# Altium footprint library 885012207125.PcbLib: 1 footprints
Each footprint in its own frame and in the unit in brackets; x right, y up, seen from the top. Pads: shape width x height; smd on the part's side, far side on the other; paste and mask are expansions set on the pad; w line width, h text height; cw(c..) or ccw(c..) is an arc to the next point about the centre after c.
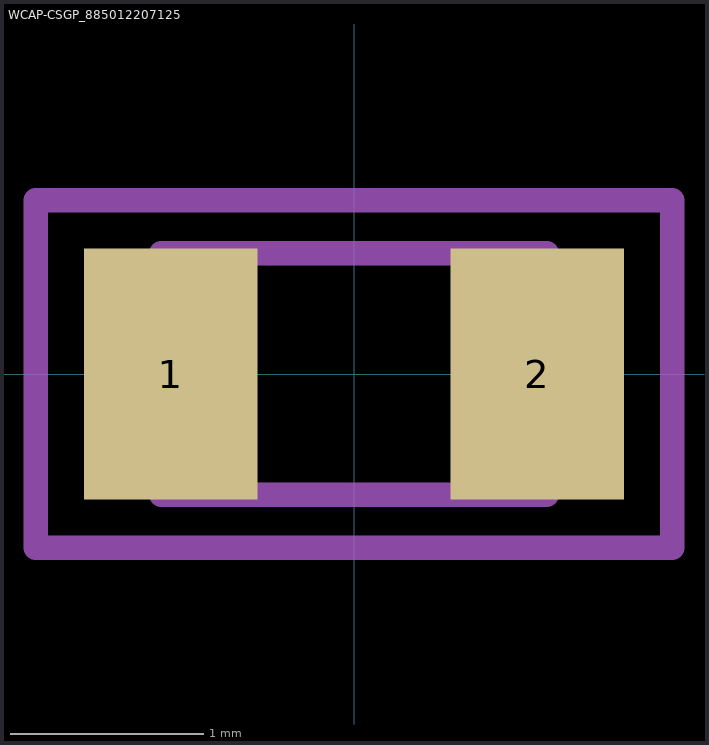
[diagram p0: the footprint, top view; thin cyan lines are the x and y axes]

## WCAP-CSGP_885012207125 [mm]
pads (2):
  rect 0.9x1.3 smd: 1(-0.95,0) 2(0.95,0)
Mechanical 13:
  lines w0.127: -1,-0.625 1,-0.625 1,0.625 -1,0.625 -1,-0.625
Mechanical 15:
  lines w0.127: -1.65,-0.9 1.65,-0.9 1.65,0.9 -1.65,0.9 -1.65,-0.9
3D body "step_temp.STEP": height 0.63, standoff -0.63, extent -1,-0.625 1,0.625